# EAGLE library part J-8 (library conn)
8 pin connector
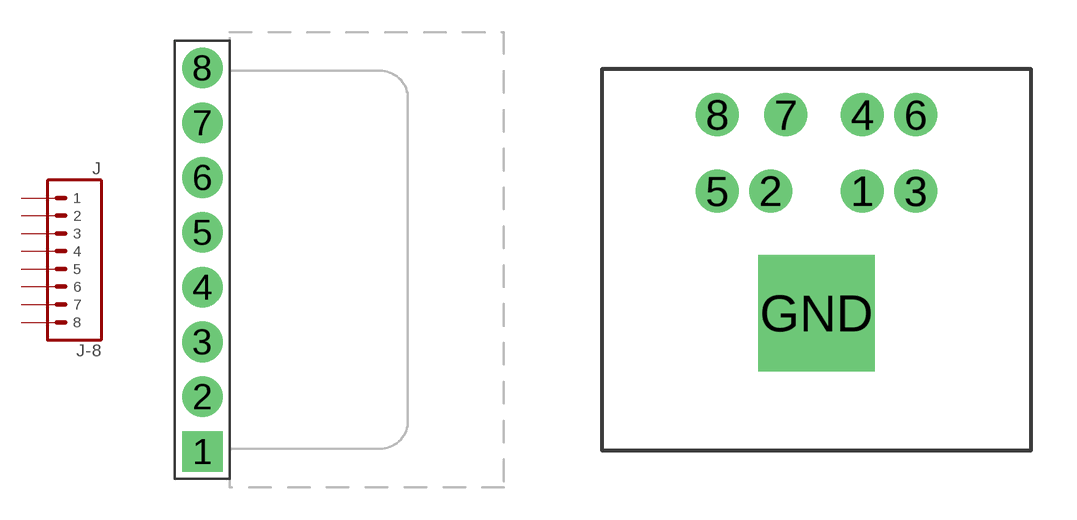
[diagram p1: symbol with the pads of J-8-2510; footprints J-8-2510, J-8-MINIDIN-KMD11]

Designator prefix J

## J-8-2510  [J-8-2510]
1  1  pas
2  2  pas
3  3  pas
4  4  pas
5  5  pas
6  6  pas
7  7  pas
8  8  pas

## J-8-MINIDIN  [J-8-MINIDIN-KMD11]
Pads as for J-8-2510

## J-8-100  [J-8-100]
Pads as for J-8-2510

## Footprint J-8-2510 (pad centres in mm)
Molex 2510 connector, 8 pins
drill 1.016 pad 1.88 square: 1 0,-8.89
drill 1.016 pad 1.88: 2 0,-6.35; 3 0,-3.81; 4 0,-1.27; 5 0,1.27; 6 0,3.81; 7 0,6.35; 8 0,8.89

## Footprint J-8-MINIDIN-KMD11 (pad centres in mm)
Mini-DIN Socket. Pads are numbered corresponding to Mini-DIN 8 connector pins.
drill 0.9: 1 1.5,0; 2 -1.5,0; 3 3.25,0; 4 1.5,2.5; 5 -3.25,0; 6 3.25,2.5; 7 -1,2.5; 8 -3.25,2.5
drill 2.8 pad 3.81 square: GND 0,-4

## Footprint J-8-100 (pad centres in mm)
drill 1.016 pad 1.88 square: 1 -8.89,0
drill 1.016 pad 1.88: 2 -6.35,0; 3 -3.81,0; 4 -1.27,0; 5 1.27,0; 6 3.81,0; 7 6.35,0; 8 8.89,0